# Altium footprint library PCB - HEADERS - Samtec - FTSH-110-01-F-DV-P-TR.PcbLib: 1 footprints
Each footprint in its own frame and in the unit in brackets; x right, y up, seen from the top. Pads: shape width x height; smd on the part's side, far side on the other; paste and mask are expansions set on the pad; w line width, h text height; cw(c..) or ccw(c..) is an arc to the next point about the centre after c.
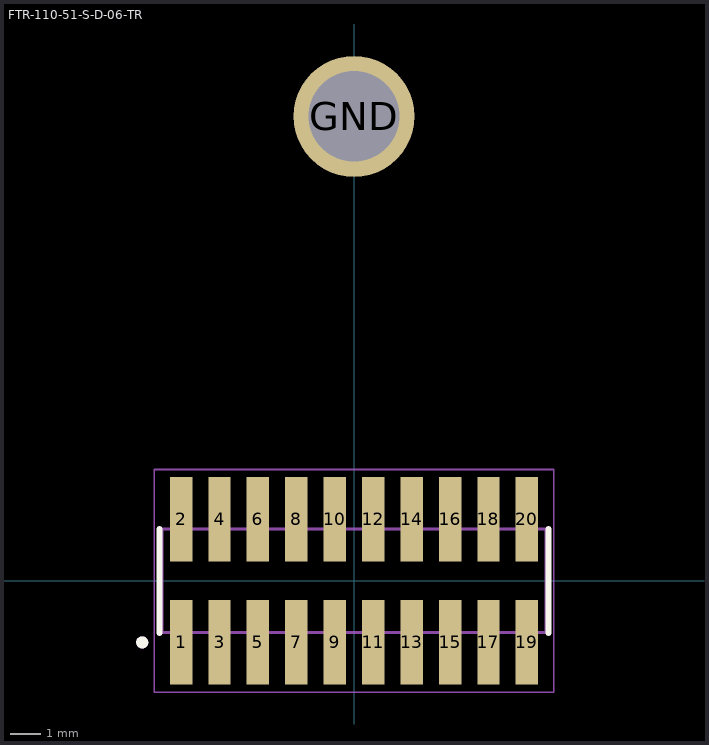
[diagram p0: the footprint, top view; thin cyan lines are the x and y axes]

## FTR-110-51-S-D-06-TR [mm]
pads (21):
  rect 0.74x2.79 smd: 1(-5.715,-2.038) 2(-5.715,2.032) 3(-4.445,-2.038) 4(-4.445,2.032) 5(-3.175,-2.038) 6(-3.175,2.032) 7(-1.905,-2.038) 8(-1.905,2.032) 9(-0.635,-2.038) 10(-0.635,2.032) 11(0.635,-2.038) 12(0.635,2.032) 13(1.905,-2.038) 14(1.905,2.032) 15(3.175,-2.038) 16(3.175,2.032) 17(4.445,-2.038) 18(4.445,2.032) 19(5.715,-2.038) 20(5.715,2.032)
  round 4 / inner round 1.524 / far side round 1.524 hole 3 mask+0.102: GND(0,15.35)
Top Overlay:
  circle w0.2: c-7,-2.038 r0.1
  lines w0.2: -6.435,-1.718 -6.435,1.712 ; 6.435,-1.718 6.435,1.712
Mechanical 13:
  circle w0.2: c-7,-2.038 r0.1
  lines w0.1: -6.35,-1.718 -6.35,1.712 ; -6.35,-1.718 6.35,-1.718 ; -6.35,-1.718 -6.35,1.712 ; -6.35,1.712 6.35,1.712 ; -6.35,1.712 6.35,1.712 ; 6.35,-1.718 6.35,1.712 ; 6.35,-1.718 6.35,1.712
Mechanical 15:
  lines w0.05: -6.6,-3.683 -6.6,3.677 6.6,3.677 6.6,-3.683 -6.6,-3.683
3D body "FTSH-110-01-F-DV-P-TR.stp": height 7.09, standoff 0.1, extent -6.35,-2.924 6.35,2.918